# Altium schematic symbol library Connector.SchLib: 12 symbols
Pins are listed as number, name and electrical type; pins without a type are passive.

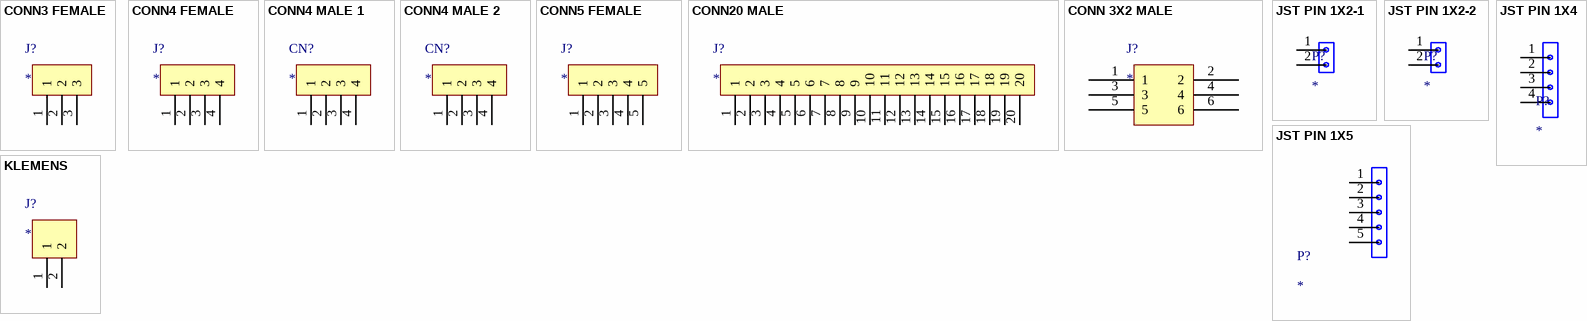
[diagram p0: symbols CONN3 FEMALE to KLEMENS]

## CONN3 FEMALE
designator J?
3 PIN 2.54MM
footprint CONN3 FEMALE (3 PIN 2.54MM)
pins: 1, 2, 3

## CONN4 FEMALE
designator J?
4 PIN 2.54MM
footprint CONN4 FEMALE (4 PIN 2.54MM)
pins: 1, 2, 3, 4

## CONN4 MALE 1
designator CN?
4 PIN 2.54MM
footprint CONN4 MALE 1 (4 PIN 2.54MM)
pins: 1, 2, 3, 4

## CONN4 MALE 2
designator CN?
4 PIN 2.54MM; Supplier 1: Digi-Key; Supplier 2: Farnell; Supplier 3: Mouser; Supplier 4: Arrow Electronics; Supplier Part Number 1: WM8074-ND; Supplier Part Number 2: 3107372; Supplier Part Number 3: 538-90120-0124; Supplier Part Number 4: 90120-0124
footprint CONN4 MALE 2 (4 PIN 2.54MM)
pins: 1, 2, 3, 4

## CONN5 FEMALE
designator J?
4 PIN 2.54MM
footprint CONN5 FEMALE (5 PIN 2.54MM)
pins: 1, 2, 3, 4, 5

## CONN20 MALE
designator J?
20 PIN 2.54MM
footprint CONN20 MALE (3 PIN 2.54MM)
pins: 1, 2, 3, 4, 5, 6, 7, 8, 9, 10, 11, 12, 13, 14, 15, 16, 17, 18, 19, 20

## CONN 3X2 MALE
designator J?
3X2 PIN 2.54MM
footprint CONN 3X2 MALE (3X2 PIN 2.54MM)
pins: 1, 2, 3, 4, 5, 6

## JST PIN 1X2-1
designator P?
1.5mm
footprint JST 1.5 MM 2 PİN
pins: 1 6, 2 7

## JST PIN 1X2-2
designator P?
2.54mm
footprint JST 2.54 mm 2 PİN
pins: 1 6, 2 7

## JST PIN 1X4
designator P?
2.54mm
footprint JST 2.54 mm 4 PİN
pins: 1 6, 2 6, 3 6, 4 6

## JST PIN 1X5
designator P?
2.54MM
footprint JST 2.54 MM 5 PİN
pins: 1, 2, 3, 4, 5

## KLEMENS
designator J?
2 PIN 3.5MM
footprint KLEMENS (2 PIN)
pins: 1, 2